# Altium schematic symbol library BMI088.SchLib: 1 symbol
Pins are listed as number, name and electrical type; pins without a type are passive.

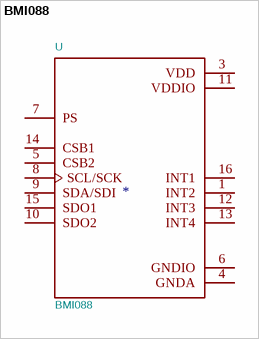
[diagram p0: symbol BMI088]

## BMI088
designator U  value BMI088
Parameter_4: None; Parameter_5: VFLGA-16 Bosch Sensortec; Parameter_6: Bosch Sensortec; Parameter_7: High-performance 6-axis inertial sensor _accelerometer + gyroscope_; Parameter_8: Unavailable; Footprint: PQFN50P450X300X100-16N; Supplier: BMI088
footprint PQFN50P450X300X100-16N
pins: 1 INT2, 3 VDD, 4 GNDA, 5 CSB2, 6 GNDIO, 7 PS, 8 SCL/SCK, 9 SDA/SDI, 10 SDO2, 11 VDDIO, 12 INT3, 13 INT4, 14 CSB1, 15 SDO1, 16 INT1